# Altium schematic symbol library LM317EMPX_NOPB.SchLib: 1 symbol
Pins are listed as number, name and electrical type; pins without a type are passive.

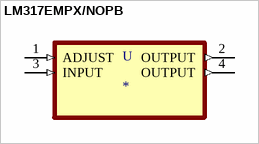
[diagram p0: symbol LM317EMPX/NOPB]

## LM317EMPX/NOPB
designator U
1.5-A, 40-V, adjustable linear voltage regulator 4-SOT-223 0 to 125; MP: LM317EMPX/NOPB; MF: Texas Instruments; Value: *; SnapEDA_Link: https://www.snapeda.com/parts/LM317EMPX/NOPB/Texas%20Instruments/view-part/425399/?ref=snap; Price: None; Availability: Unavailable; Texas_Instruments-Purchase-URL: https://snapeda.com/shop?store=Texas+Instruments&id=425399; Package: SOT-223-4 Texas Instruments
footprint SOT230P700X180-4N
pins: 1 ADJUST (in), 2 OUTPUT (out), 3 INPUT (in), 4 OUTPUT (out)